# Altium footprint library PcbLib.PcbLib: 43 footprints (part 2 of 3)
Each footprint in its own frame and in the unit in brackets; x right, y up, seen from the top. Pads: shape width x height; smd on the part's side, far side on the other; paste and mask are expansions set on the pad; w line width, h text height; cw(c..) or ccw(c..) is an arc to the next point about the centre after c.
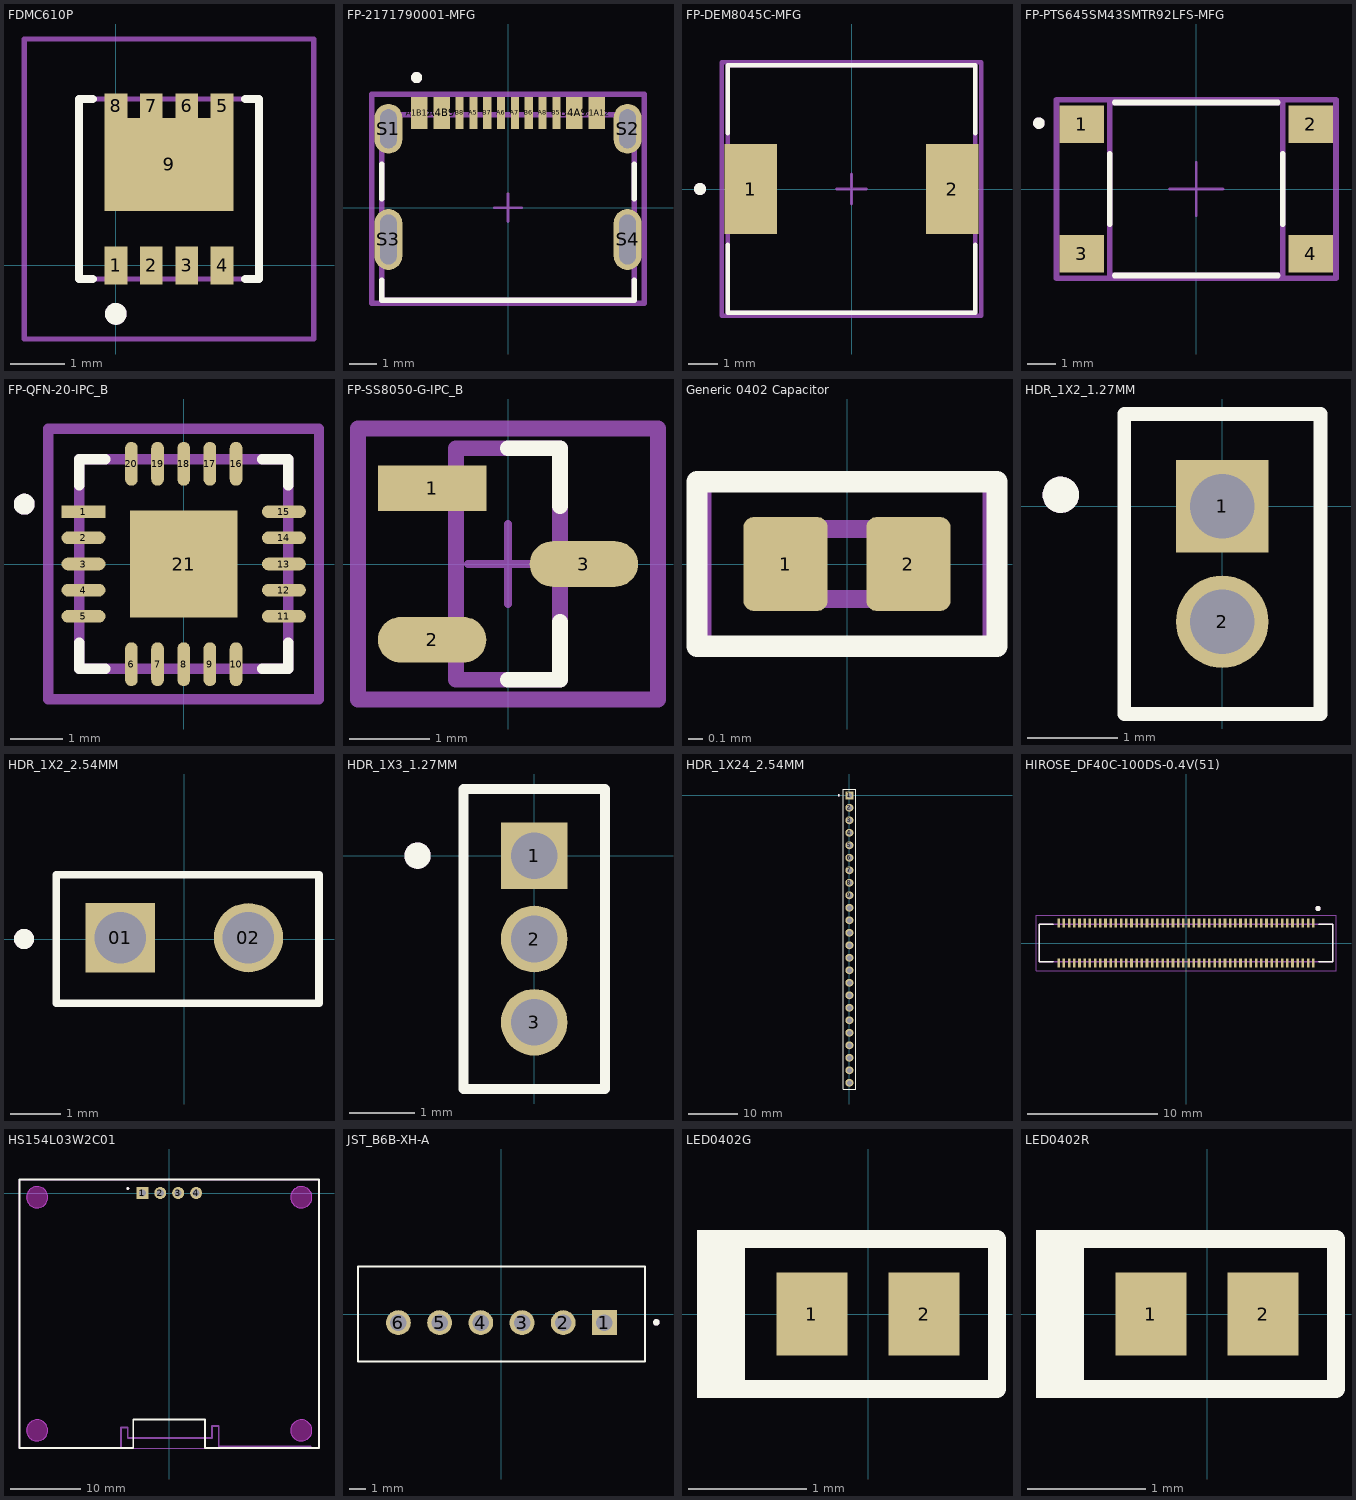
[diagram p1: the footprints below, top view; thin cyan lines are the x and y axes]

## FDMC610P [mm]
pads (9):
  rect 0.42x0.7 smd: 1(0,0) 2(0.65,0) 3(1.3,0) 4(1.95,0)
  rect 0.42x0.45 smd: 5(1.95,2.925) 6(1.3,2.925) 7(0.65,2.925) 8(0,2.925)
  rect 2.37x1.7 smd: 9(0.975,1.85)
Top Overlay:
  circle w0.2: c0,-0.889 r0.1
  lines w0.152: -0.425,-0.25 -0.675,-0.25 -0.675,3.05 -0.425,3.05 ; 2.375,-0.25 2.625,-0.25 2.625,3.05 2.375,3.05
Top 3D Body:
  circle w0.2: c0,-0.889 r0.1
Top Courtyard:
  lines w0.1: -0.675,-0.25 2.625,-0.25 2.625,3.05 -0.675,3.05 -0.675,-0.25
Bottom Assembly:
  lines w0.1: -1.675,-1.35 3.625,-1.35 3.625,4.15 -1.675,4.15 -1.675,-1.35
3D body "FDMC610P.stp": height 1.16, standoff 0.01, extent -0.675,-0.246 2.625,3.17

## FP-2171790001-MFG [mm]
pads (16):
  rect 0.6x1.15 smd paste+0 mask+0: A1B12(-3.2,3.425) A4B9(-2.4,3.425) B1A12(3.2,3.425) B4A9(2.4,3.425)
  rect 0.3x1.15 smd paste+0 mask+0: A5(-1.25,3.425) A6(-0.25,3.425) A7(0.25,3.425) A8(1.25,3.425) B5(1.75,3.425) B6(0.75,3.425) B7(-0.75,3.425) B8(-1.75,3.425)
  rrect100% 1x1.8 hole 1.4 slot 0.6 at 0 deg paste-2539.97 mask+0: S1(-4.32,2.85) S2(4.32,2.85)
  rrect100% 1x2.2 hole 1.8 slot 0.6 at 0 deg paste-2539.97 mask+0: S3(-4.32,-1.15) S4(4.32,-1.15)
Top Overlay:
  circle w0.2: c-3.302,4.699 r0.1
  lines w0.2: -4.57,-2.625 -4.57,-3.35 4.57,-3.35 4.57,-2.625 ; -4.57,0.325 -4.57,1.575 ; 4.57,0.325 4.57,1.575
Top Assembly:
  lines w0.2: -4.92,-3.45 4.92,-3.45 4.92,4.1 -4.92,4.1 -4.92,-3.45
  text ".Designator" at 0,0.513 h1
Top 3D Body:
  circle w0.2: c-3.302,4.699 r0.1
  lines w0.2: -4.57,-3.35 4.57,-3.35 4.57,3.35 -4.57,3.35 -4.57,-3.35
Top Courtyard:
  lines w0.2: -4.92,-3.45 4.92,-3.45 4.92,4.1 -4.92,4.1 -4.92,-3.45
Top Component Center:
  lines w0.1: -0.5,0 0.5,0 ; 0,-0.5 0,0.5
3D body "Conn_Molex_2171790001_eec.STEP": height 0.25, standoff 0, extent -4.92,-3.45 4.92,4.1

## FP-DEM8045C-MFG [mm]
pads (2):
  rect 1.75x3 smd paste+0 mask+0: 1(-3.375,0) 2(3.375,0)
Top Overlay:
  circle w0.2: c-5.08,0 r0.1
  lines w0.152: -4.15,-1.875 -4.15,-4.15 4.15,-4.15 4.15,-1.875 ; -4.15,1.875 -4.15,4.15 4.15,4.15 4.15,1.875
Top Assembly:
  lines w0.152: -4.35,-4.25 4.35,-4.25 4.35,4.25 -4.35,4.25 -4.35,-4.25
Top 3D Body:
  circle w0.2: c-5.08,0 r0.1
  lines w0.152: -4.15,-4.15 -4.15,4.15 4.15,4.15 4.15,-4.15 -4.15,-4.15
Top Courtyard:
  lines w0.152: -4.35,-4.25 4.35,-4.25 4.35,4.25 -4.35,4.25 -4.35,-4.25
Top Component Center:
  lines w0.1: -0.5,0 0.5,0 ; 0,-0.5 0,0.5
3D body "Ind_Murata_1217AS-H-100M=P3_eec.STEP": height 0.25, standoff 0, extent -4.35,-4.25 4.35,4.25

## FP-PTS645SM43SMTR92LFS-MFG [mm]
pads (4):
  rect 1.55x1.3 smd paste+0 mask+0: 1(-3.975,2.25) 2(3.975,2.25) 3(-3.975,-2.25) 4(3.975,-2.25)
Top Overlay:
  circle w0.2: c-5.461,2.286 r0.1
  lines w0.2: -3,-1.225 -3,1.225 ; -2.825,-3 2.825,-3 ; -2.825,3 2.825,3 ; 3,-1.225 3,1.225
Top Assembly:
  lines w0.2: -4.85,-3.1 4.85,-3.1 4.85,3.1 -4.85,3.1 -4.85,-3.1
  text ".Designator" at 0,0.188 h1
Top 3D Body:
  circle w0.2: c-5.461,2.286 r0.1
  lines w0.2: -3,-3 3,-3 3,3 -3,3 -3,-3
Top Courtyard:
  lines w0.2: -4.85,-3.1 4.85,-3.1 4.85,3.1 -4.85,3.1 -4.85,-3.1
Top Component Center:
  lines w0.1: -0.93,0 0.93,0 ; 0,-0.93 0,0.93
3D body "User Library-PTS645SL43SMTR92-LFS.STEP": height 4.3, standoff 0, extent -4.5,-3 4.5,3
3D body "User Library-PTS645SL43SMTR92-LFS.STEP": height 4.3, standoff 0, extent -4.5,-3 4.5,3
3D body "User Library-PTS645SL43SMTR92-LFS.STEP": height 4.3, standoff 0, extent -4.5,-3 4.5,3

## FP-QFN-20-IPC_B [mm]
pads (21):
  rect 0.84x0.242 smd paste+0 mask+0: 1(-1.916,1)
  rrect100% 0.84x0.242 smd paste+0 mask+0: 2(-1.916,0.5) 3(-1.916,0) 4(-1.916,-0.5) 5(-1.916,-1) 11(1.916,-1) 12(1.916,-0.5) 13(1.916,0) 14(1.916,0.5) 15(1.916,1)
  rrect100% 0.242x0.84 smd paste+0 mask+0: 6(-1,-1.916) 7(-0.5,-1.916) 8(0,-1.916) 9(0.5,-1.916) 10(1,-1.916) 16(1,1.916) 17(0.5,1.916) 18(0,1.916) 19(-0.5,1.916) 20(-1,1.916)
  rect 2.05x2.05 smd paste-1000 mask+0: 21(0,0)
Top Overlay:
  circle w0.2: c-3.048,1.143 r0.1
  lines w0.2: -2,-1.5 -2,-2 -1.5,-2 ; -2,1.5 -2,2 -1.5,2 ; 1.5,-2 2,-2 2,-1.5 ; 1.5,2 2,2 2,1.5
Top Paste:
  rectangle: -0.648,-0.648 0.648,0.648
Top Assembly:
  lines w0.2: -2.585,-2.585 -2.585,2.585 2.585,2.585 2.585,-2.585 -2.585,-2.585
  text ".Designator" at 0,0.188 h1
Top 3D Body:
  circle w0.2: c-3.048,1.143 r0.1
  lines w0.2: -2,-2 -2,2 2,2 2,-2 -2,-2
Top Courtyard:
  lines w0.2: -2.585,-2.585 -2.585,2.585 2.585,2.585 2.585,-2.585 -2.585,-2.585
Top Component Center:
  lines w0.1: -0.5,0 0.5,0 ; 0,-0.5 0,0.5
3D body "IC_FTDI_FT231XQ-R_eec.STEP": height 0.25, standoff 0, extent -2.585,-2.585 2.585,2.585

## FP-SS8050-G-IPC_B [mm]
pads (3):
  rect 1.357x0.572 smd paste+0 mask+0: 1(-0.951,0.95)
  rrect100% 1.357x0.572 smd paste+0 mask+0: 2(-0.951,-0.95) 3(0.951,0)
Top Overlay:
  lines w0.2: 0,-1.45 0.65,-1.45 0.65,-0.725 ; 0,1.45 0.65,1.45 0.65,0.725
Top Assembly:
  lines w0.2: -1.879,-1.7 -1.879,1.7 1.879,1.7 1.879,-1.7 -1.879,-1.7
  text ".Designator" at 0,-0.001 h1
Top 3D Body:
  lines w0.2: -0.65,-1.45 -0.65,1.45 0.65,1.45 0.65,-1.45 -0.65,-1.45
Top Courtyard:
  lines w0.2: -1.879,-1.7 -1.879,1.7 1.879,1.7 1.879,-1.7 -1.879,-1.7
Top Component Center:
  lines w0.1: -0.5,0 0.5,0 ; 0,-0.5 0,0.5
3D body "Trans_Comchip_SS8050-G_eec.STEP": height 0.25, standoff 0, extent -1.879,-1.7 1.879,1.7

## Generic 0402 Capacitor [mm] "CAPC1005X65N"
pads (2):
  rrect25% 0.6x0.67 smd: 1(-0.437,0) 2(0.437,0)
Top Overlay:
  lines w0.152: -1.067,-0.584 1.067,-0.584 1.067,0.584 -1.067,0.584 -1.067,-0.584
Top 3D Body:
  lines w0.127: -0.5,-0.25 0.5,-0.25 0.5,0.25 -0.5,0.25 -0.5,-0.25
Top Courtyard:
  lines w0.05: -0.987,-0.585 0.987,-0.585 0.987,0.585 -0.987,0.585 -0.987,-0.585
3D body "step_temp.STEP": height 0.65, standoff 0, extent -0.5,-0.25 0.5,0.25

## HDR_1X2_1.27MM [mil]
pads (2):
  rect 40x40 hole 28: 1(0,0)
  round 40 hole 28: 2(0,-50)
Top Overlay:
  circle w7.87: c-70,5 r3.94
  lines w6: -42.5,-90 42.5,-90 42.5,40 -42.5,40 -42.5,-90
Top 3D Body:
  circle w7.87: c-70,5 r3.94
3D body "FTS-102-01-F-S.stp": height 154.5, standoff -89.5, extent -42.5,-75 42.5,25

## HDR_1X2_2.54MM [mm]
pads (2):
  rect 1.37x1.37 / inner round 1.37 / far side rect 1.37x1.37 hole 1.02: 01(-1.27,0.025)
  round 1.37 hole 1.02: 02(1.27,0.025)
Top Overlay:
  circle w0.2: c-3.175,0 r0.1
  lines w0.152: -2.54,-1.27 -1.143,-1.27 1.397,-1.27 2.667,-1.27 2.667,1.27 -2.54,1.27 -2.54,-1.27
Top 3D Body:
  circle w0.2: c-3.175,0 r0.1
3D body "TSW-102-07-F-S.stp": height 8.39, standoff -2.53, extent -2.54,-1.27 2.667,1.27

## HDR_1X3_1.27MM [mil]
pads (3):
  rect 40x40 hole 28: 1(0,0)
  round 40 hole 28: 2(0,-50) 3(0,-100)
Top Overlay:
  circle w7.87: c-70,0 r3.94
  lines w6: -42.5,-140 42.5,-140 42.5,40 -42.5,40 -42.5,-140
Top 3D Body:
  circle w7.87: c-70,0 r3.94
3D body "FTS-103-01-F-S.stp": height 154.5, standoff -89.5, extent -42.5,-125 42.5,25

## HDR_1X24_2.54MM [mil]
pads (24):
  rect 64x64 hole 40: 1(0,0)
  round 64 hole 40: 2(0,-100) 3(0,-200) 4(0,-300) 5(0,-400) 6(0,-500) 7(0,-600) 8(0,-700) 9(0,-800) 10(0,-900) 11(0,-1000) 12(0,-1100) 13(0,-1200) 14(0,-1300) 15(0,-1400) 16(0,-1500) 17(0,-1600) 18(0,-1700) 19(0,-1800) 20(0,-1900) 21(0,-2000) 22(0,-2100) 23(0,-2200) 24(0,-2300)
Top Overlay:
  circle w7.87: c-85,0 r3.94
  lines w10: -50,-2350 -50,50 50,50 50,-2350 -50,-2350
Top 3D Body:
  circle w7.87: c-85,0 r3.94
3D body "0022284245.stp": height 385.5, standoff -119.5, extent -49,-2350 49,50

## HIROSE_DF40C-100DS-0.4V(51) [mm]
height 1.65
pads (100):
  rect 0.2x0.7 smd paste-1 mask+0.102: 1(9.8,1.54) 2(9.8,-1.54) 3(9.4,1.54) 4(9.4,-1.54) 5(9,1.54) 6(9,-1.54) 7(8.6,1.54) 8(8.6,-1.54) 9(8.2,1.54) 10(8.2,-1.54) 11(7.8,1.54) 12(7.8,-1.54) 13(7.4,1.54) 14(7.4,-1.54) 15(7,1.54) 16(7,-1.54) 17(6.6,1.54) 18(6.6,-1.54) 19(6.2,1.54) 20(6.2,-1.54) 21(5.8,1.54) 22(5.8,-1.54) 23(5.4,1.54) 24(5.4,-1.54) 25(5,1.54) 26(5,-1.54) 27(4.6,1.54) 28(4.6,-1.54) 29(4.2,1.54) 30(4.2,-1.54) 31(3.8,1.54) 32(3.8,-1.54) 33(3.4,1.54) 34(3.4,-1.54) 35(3,1.54) 36(3,-1.54) 37(2.6,1.54) 38(2.6,-1.54) 39(2.2,1.54) 40(2.2,-1.54) 41(1.8,1.54) 42(1.8,-1.54) 43(1.4,1.54) 44(1.4,-1.54) 45(1,1.54) 46(1,-1.54) 47(0.6,1.54) 48(0.6,-1.54) 49(0.2,1.54) 50(0.2,-1.54) 51(-0.2,1.54) 52(-0.2,-1.54) 53(-0.6,1.54) 54(-0.6,-1.54) 55(-1,1.54) 56(-1,-1.54) 57(-1.4,1.54) 58(-1.4,-1.54) 59(-1.8,1.54) 60(-1.8,-1.54) 61(-2.2,1.54) 62(-2.2,-1.54) 63(-2.6,1.54) 64(-2.6,-1.54) 65(-3,1.54) 66(-3,-1.54) 67(-3.4,1.54) 68(-3.4,-1.54) 69(-3.8,1.54) 70(-3.8,-1.54) 71(-4.2,1.54) 72(-4.2,-1.54) 73(-4.6,1.54) 74(-4.6,-1.54) 75(-5,1.54) 76(-5,-1.54) 77(-5.4,1.54) 78(-5.4,-1.54) 79(-5.8,1.54) 80(-5.8,-1.54) 81(-6.2,1.54) 82(-6.2,-1.54) 83(-6.6,1.54) 84(-6.6,-1.54) 85(-7,1.54) 86(-7,-1.54) 87(-7.4,1.54) 88(-7.4,-1.54) 89(-7.8,1.54) 90(-7.8,-1.54) 91(-8.2,1.54) 92(-8.2,-1.54) 93(-8.6,1.54) 94(-8.6,-1.54) 95(-9,1.54) 96(-9,-1.54) 97(-9.4,1.54) 98(-9.4,-1.54) 99(-9.8,1.54) 100(-9.8,-1.54)
Top Overlay:
  circle w0.2: c10.16,2.667 r0.1
  lines w0.127: -10.22,-1.44 -11.3,-1.44 -11.3,1.44 -10.22,1.44 ; 10.22,-1.44 11.3,-1.44 11.3,1.44 10.22,1.44
Top Paste:
  drawing of 100 lines, arcs and shapes, not listed
Top 3D Body:
  circle w0.2: c10.16,2.667 r0.1
  lines w0.127: -11.3,-1.44 11.3,-1.44 11.3,1.44 -11.3,1.44 -11.3,-1.44
Top Courtyard:
  lines w0.05: -11.55,-2.14 11.55,-2.14 11.55,2.14 -11.55,2.14 -11.55,-2.14
3D body "step_temp.STEP": height 1.4, standoff -0.05, extent -11.297,-1.715 11.303,1.665

## HS154L03W2C01 [mm]
pads (4):
  rect 1.7x1.7 hole 1: 1(-3.81,0)
  round 1.7 hole 1: 2(-1.27,0) 3(1.27,0) 4(3.81,0)
Top Overlay:
  circle w0.2: c-5.842,0.635 r0.1
  lines w0.254: -21.2,1.9 21.199,1.9 21.199,-36.099 5.078,-36.099 5.078,-32.068 -5.082,-32.068 -5.082,-36.099 -21.199,-36.099 -21.199,1.909
Keep-Out Layer:
  board cut-out: -17.2,-0.6 -17.2,-0.748 -17.258,-1.037 -17.371,-1.31 -17.535,-1.556 -17.744,-1.765 -17.99,-1.929 -18.263,-2.042 -18.552,-2.1 -18.848,-2.1 -19.138,-2.042 -19.411,-1.929 -19.656,-1.765 -19.865,-1.556 -20.029,-1.31 -20.142,-1.037 -20.2,-0.748 -20.2,-0.6 -20.2,-0.452 -20.142,-0.162 -20.029,0.111 -19.865,0.356 -19.656,0.565 -19.411,0.729 -19.138,0.842 -18.848,0.9 -18.552,0.9 -18.263,0.842 -17.99,0.729 -17.744,0.565 -17.535,0.356 -17.371,0.111 -17.258,-0.162 -17.2,-0.452
  board cut-out: -17.2,-33.6 -17.2,-33.748 -17.258,-34.037 -17.371,-34.31 -17.535,-34.556 -17.744,-34.765 -17.99,-34.929 -18.263,-35.042 -18.552,-35.1 -18.848,-35.1 -19.138,-35.042 -19.411,-34.929 -19.656,-34.765 -19.865,-34.556 -20.029,-34.31 -20.142,-34.037 -20.2,-33.748 -20.2,-33.6 -20.2,-33.452 -20.142,-33.162 -20.029,-32.889 -19.865,-32.644 -19.656,-32.435 -19.411,-32.271 -19.138,-32.158 -18.848,-32.1 -18.552,-32.1 -18.263,-32.158 -17.99,-32.271 -17.744,-32.435 -17.535,-32.644 -17.371,-32.889 -17.258,-33.162 -17.2,-33.452
  board cut-out: 20.2,-33.6 20.2,-33.748 20.142,-34.037 20.029,-34.31 19.865,-34.556 19.656,-34.765 19.41,-34.929 19.137,-35.042 18.848,-35.1 18.552,-35.1 18.262,-35.042 17.989,-34.929 17.744,-34.765 17.535,-34.556 17.371,-34.31 17.257,-34.037 17.2,-33.748 17.2,-33.6 17.2,-33.452 17.257,-33.162 17.371,-32.889 17.535,-32.644 17.744,-32.435 17.989,-32.271 18.262,-32.158 18.552,-32.1 18.848,-32.1 19.137,-32.158 19.41,-32.271 19.656,-32.435 19.865,-32.644 20.029,-32.889 20.142,-33.162 20.2,-33.452
  board cut-out: 20.2,-0.6 20.2,-0.748 20.142,-1.037 20.029,-1.31 19.865,-1.556 19.656,-1.765 19.41,-1.929 19.137,-2.042 18.848,-2.1 18.552,-2.1 18.262,-2.042 17.989,-1.929 17.744,-1.765 17.535,-1.556 17.371,-1.31 17.257,-1.037 17.2,-0.748 17.2,-0.6 17.2,-0.452 17.257,-0.162 17.371,0.111 17.535,0.356 17.744,0.565 17.989,0.729 18.262,0.842 18.552,0.9 18.848,0.9 19.137,0.842 19.41,0.729 19.656,0.565 19.865,0.356 20.029,0.111 20.142,-0.162 20.2,-0.452
Keep-Out Layer:
  circle w0.025: c-18.7,-0.6 r1.5
  circle w0.025: c-18.7,-33.6 r1.5
  circle w0.025: c18.7,-33.6 r1.5
  circle w0.025: c18.7,-0.6 r1.5
  region: -17.2,-0.6 -17.2,-0.748 -17.258,-1.037 -17.371,-1.31 -17.535,-1.556 -17.744,-1.765 -17.99,-1.929 -18.263,-2.042 -18.552,-2.1 -18.848,-2.1 -19.138,-2.042 -19.411,-1.929 -19.656,-1.765 -19.865,-1.556 -20.029,-1.31 -20.142,-1.037 -20.2,-0.748 -20.2,-0.6 -20.2,-0.452 -20.142,-0.162 -20.029,0.111 -19.865,0.356 -19.656,0.565 -19.411,0.729 -19.138,0.842 -18.848,0.9 -18.552,0.9 -18.263,0.842 -17.99,0.729 -17.744,0.565 -17.535,0.356 -17.371,0.111 -17.258,-0.162 -17.2,-0.452
  region: 20.2,-33.6 20.2,-33.748 20.142,-34.037 20.029,-34.31 19.865,-34.556 19.656,-34.765 19.41,-34.929 19.137,-35.042 18.848,-35.1 18.552,-35.1 18.262,-35.042 17.989,-34.929 17.744,-34.765 17.535,-34.556 17.371,-34.31 17.257,-34.037 17.2,-33.748 17.2,-33.6 17.2,-33.452 17.257,-33.162 17.371,-32.889 17.535,-32.644 17.744,-32.435 17.989,-32.271 18.262,-32.158 18.552,-32.1 18.848,-32.1 19.137,-32.158 19.41,-32.271 19.656,-32.435 19.865,-32.644 20.029,-32.889 20.142,-33.162 20.2,-33.452
  region: 20.2,-0.6 20.2,-0.748 20.142,-1.037 20.029,-1.31 19.865,-1.556 19.656,-1.765 19.41,-1.929 19.137,-2.042 18.848,-2.1 18.552,-2.1 18.262,-2.042 17.989,-1.929 17.744,-1.765 17.535,-1.556 17.371,-1.31 17.257,-1.037 17.2,-0.748 17.2,-0.6 17.2,-0.452 17.257,-0.162 17.371,0.111 17.535,0.356 17.744,0.565 17.989,0.729 18.262,0.842 18.552,0.9 18.848,0.9 19.137,0.842 19.41,0.729 19.656,0.565 19.865,0.356 20.029,0.111 20.142,-0.162 20.2,-0.452
  region: -17.2,-33.6 -17.2,-33.748 -17.258,-34.037 -17.371,-34.31 -17.535,-34.556 -17.744,-34.765 -17.99,-34.929 -18.263,-35.042 -18.552,-35.1 -18.848,-35.1 -19.138,-35.042 -19.411,-34.929 -19.656,-34.765 -19.865,-34.556 -20.029,-34.31 -20.142,-34.037 -20.2,-33.748 -20.2,-33.6 -20.2,-33.452 -20.142,-33.162 -20.029,-32.889 -19.865,-32.644 -19.656,-32.435 -19.411,-32.271 -19.138,-32.158 -18.848,-32.1 -18.552,-32.1 -18.263,-32.158 -17.99,-32.271 -17.744,-32.435 -17.535,-32.644 -17.371,-32.889 -17.258,-33.162 -17.2,-33.452
Mechanical 1:
  circle w0.025: c-18.7,-0.6 r1.5
  circle w0.025: c-18.7,-33.6 r1.5
  circle w0.025: c18.7,-33.6 r1.5
  circle w0.025: c18.7,-0.6 r1.5
Mechanical 6:
  lines w0.254: -21.113,-36.085 -6.814,-36.085 -6.814,-33.169 -5.873,-33.169 -5.873,-34.674 6.074,-34.674 6.074,-32.981 7.015,-32.981 7.015,-35.897 19.997,-35.897
Top 3D Body:
  circle w0.2: c-5.842,0.635 r0.1
Top Courtyard:
  region: -21.14,-36.1 -21.14,-36.125 -21.175,-36.16 -21.225,-36.16 -21.26,-36.125 -21.26,-36.1 -21.26,-36.075 -21.225,-36.04 -21.175,-36.04 -21.14,-36.075
  region: 0.95,-0.32 0.95,0.32 1.59,0.32 1.59,-0.32
  region: -1.59,-0.32 -1.59,0.32 -0.95,0.32 -0.95,-0.32
  region: -4.13,-0.32 -4.13,0.32 -3.49,0.32 -3.49,-0.32
  region: 3.49,-0.32 3.49,0.32 4.13,0.32 4.13,-0.32
  lines w0.051: -21.2,-36.1 21.2,-36.1 21.2,1.9 -21.2,1.9 -21.2,-36.1

## JST_B6B-XH-A [mm]
height 7
pads (6):
  rect 1.508x1.508 / inner round 1.508 / far side rect 1.508x1.508 hole 1: 1(6.25,-0.525)
  round 1.508 hole 1: 2(3.75,-0.525) 3(1.25,-0.525) 4(-1.25,-0.525) 5(-3.75,-0.525) 6(-6.25,-0.525)
Top Overlay:
  circle w0.2: c9.398,-0.508 r0.1
  lines w0.127: -8.7,-2.875 8.7,-2.875 8.7,2.875 -8.7,2.875 -8.7,-2.875
Top 3D Body:
  circle w0.2: c9.398,-0.508 r0.1
3D body "B6B-XH-A.STEP": height 7.01, standoff -3.39, extent -8.657,-2.921 8.743,2.829

## LED0402G [mm]
pads (2):
  rect 0.6x0.7 smd: 1(-0.475,0) 2(0.475,0)
Top Overlay:
  rectangle: -1.448,-0.711 -1.041,0.711
  lines w0.152: -1.346,-0.61 -1.346,0.635 ; -1.321,-0.635 1.092,-0.635 1.092,0.635 -1.321,0.635
3D body "User Library-LED_1006_G.STEP": height 0.21, standoff 0.01, extent -0.5,-0.3 0.5,0.3

## LED0402R [mm]
pads (2):
  rect 0.6x0.7 smd: 1(-0.475,0) 2(0.475,0)
Top Overlay:
  rectangle: -1.448,-0.711 -1.041,0.711
  lines w0.152: -1.346,-0.61 -1.346,0.635 ; -1.321,-0.635 1.092,-0.635 1.092,0.635 -1.321,0.635
3D body "User Library-LED_1006_R.STEP": height 0.21, standoff 0.01, extent -0.5,-0.3 0.5,0.3